# EAGLE library part IS64WV1288EEBLL-* (library memory-issi-asynsram)
128k x 8 high- speed CMOS static RAM 8ns and 10ns access time 3.6V power supply
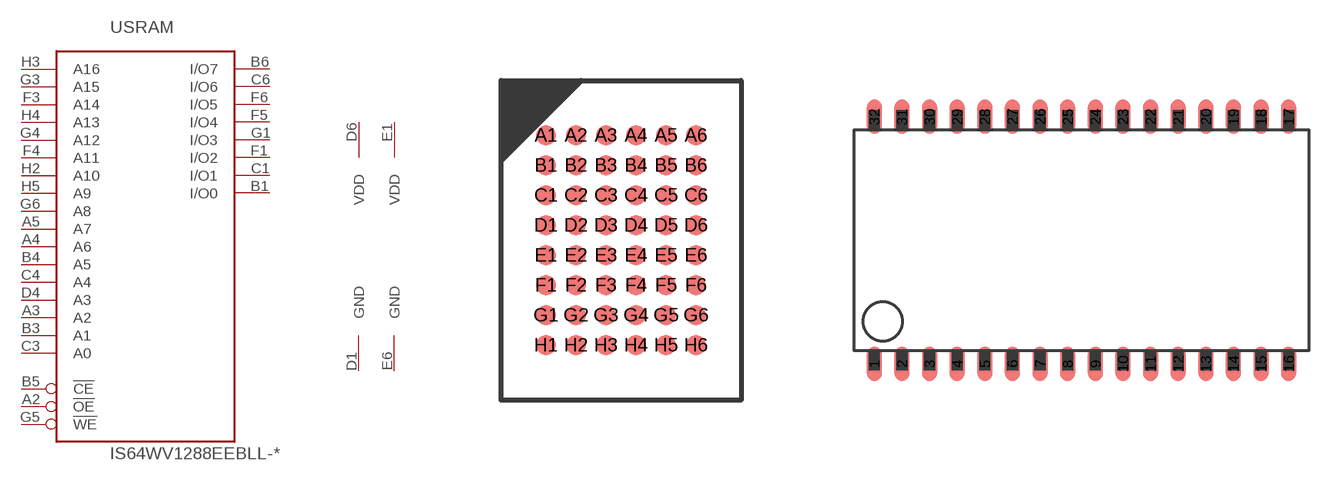
[diagram p24: symbol with the pads of TFBGA48_6X8; footprints TFBGA48_6X8, TSOP-II-32]

Designator prefix -; gates SRAM=128KX8_TYP1 PWR=PWR_VDD2_GND2

## IS64WV1288EEBLL-10B, IS64WV1288EEBLL-8B  [TFBGA48_6X8]
A2  SRAM:!OE  in
A3  SRAM:A2  in
A4  SRAM:A6  in
A5  SRAM:A7  in
B1  SRAM:I/O0  hiz
B3  SRAM:A1  in
B4  SRAM:A5  in
B5  SRAM:!CE  in
B6  SRAM:I/O7  hiz
C1  SRAM:I/O1  hiz
C3  SRAM:A0  in
C4  SRAM:A4  in
C6  SRAM:I/O6  hiz
D1  PWR:GND  pwr
D4  SRAM:A3  in
D6  PWR:VDD  pwr
E1  PWR:VDD  pwr
E6  PWR:GND  pwr
F1  SRAM:I/O2  hiz
F3  SRAM:A14  in
F4  SRAM:A11  in
F5  SRAM:I/O4  hiz
F6  SRAM:I/O5  hiz
G1  SRAM:I/O3  hiz
G3  SRAM:A15  in
G4  SRAM:A12  in
G5  SRAM:!WE  in
G6  SRAM:A8  in
H2  SRAM:A10  in
H3  SRAM:A16  in
H4  SRAM:A13  in
H5  SRAM:A9  in

## IS64WV1288EEBLL-10CT, IS64WV1288EEBLL-8CT  [TSOP-II-32]
1  SRAM:A0  in
2  SRAM:A1  in
3  SRAM:A2  in
4  SRAM:A3  in
5  SRAM:!CE  in
6  SRAM:I/O0  hiz
7  SRAM:I/O1  hiz
8  PWR:VDD  pwr
9  PWR:GND  pwr
10  SRAM:I/O2  hiz
11  SRAM:I/O3  hiz
12  SRAM:!WE  in
13  SRAM:A4  in
14  SRAM:A5  in
15  SRAM:A6  in
16  SRAM:A7  in
17  SRAM:A8  in
18  SRAM:A9  in
19  SRAM:A10  in
20  SRAM:A11  in
21  SRAM:A12  in
22  SRAM:I/O4  hiz
23  SRAM:I/O5  hiz
24  PWR:VDD  pwr
25  PWR:GND  pwr
26  SRAM:I/O6  hiz
27  SRAM:I/O7  hiz
28  SRAM:!OE  in
29  SRAM:A13  in
30  SRAM:A14  in
31  SRAM:A15  in
32  SRAM:A16  in

## Footprint TFBGA48_6X8 (pad centres in mm)
TFBGA48 6 x 8 mm, 6 x 8-pin thin 0.75 mm pitch ball grid array package
smd 0.5 x 0.5: A1 -1.875,2.625; A2 -1.125,2.625; A3 -0.375,2.625; A4 0.375,2.625; A5 1.125,2.625; A6 1.875,2.625; B1 -1.875,1.875; B2 -1.125,1.875; B3 -0.375,1.875; B4 0.375,1.875; B5 1.125,1.875; B6 1.875,1.875; C1 -1.875,1.125; C2 -1.125,1.125; C3 -0.375,1.125; C4 0.375,1.125; C5 1.125,1.125; C6 1.875,1.125; D1 -1.875,0.375; D2 -1.125,0.375; D3 -0.375,0.375; D4 0.375,0.375; D5 1.125,0.375; D6 1.875,0.375; E1 -1.875,-0.375; E2 -1.125,-0.375; E3 -0.375,-0.375; E4 0.375,-0.375; E5 1.125,-0.375; E6 1.875,-0.375; F1 -1.875,-1.125; F2 -1.125,-1.125; F3 -0.375,-1.125; F4 0.375,-1.125; F5 1.125,-1.125; F6 1.875,-1.125; G1 -1.875,-1.875; G2 -1.125,-1.875; G3 -0.375,-1.875; G4 0.375,-1.875; G5 1.125,-1.875; G6 1.875,-1.875; H1 -1.875,-2.625; H2 -1.125,-2.625; H3 -0.375,-2.625; H4 0.375,-2.625; H5 1.125,-2.625; H6 1.875,-2.625

## Footprint TSOP-II-32 (pad centres in mm)
TSOP-II-32 32-pin thin small-outline package, Typ II
smd 0.7 x 1.6: 1 -9.525,-5.68; 2 -8.255,-5.68; 3 -6.985,-5.68; 4 -5.715,-5.68; 5 -4.445,-5.68; 6 -3.175,-5.68; 7 -1.905,-5.68; 8 -0.635,-5.68; 9 0.635,-5.68; 10 1.905,-5.68; 11 3.175,-5.68; 12 4.445,-5.68; 13 5.715,-5.68; 14 6.985,-5.68; 15 8.255,-5.68; 16 9.525,-5.68; 17 9.525,5.68; 18 8.255,5.68; 19 6.985,5.68; 20 5.715,5.68; 21 4.445,5.68; 22 3.175,5.68; 23 1.905,5.68; 24 0.635,5.68; 25 -0.635,5.68; 26 -1.905,5.68; 27 -3.175,5.68; 28 -4.445,5.68; 29 -5.715,5.68; 30 -6.985,5.68; 31 -8.255,5.68; 32 -9.525,5.68